# EAGLE library part CON-FFC-60-REV (library added_parts)
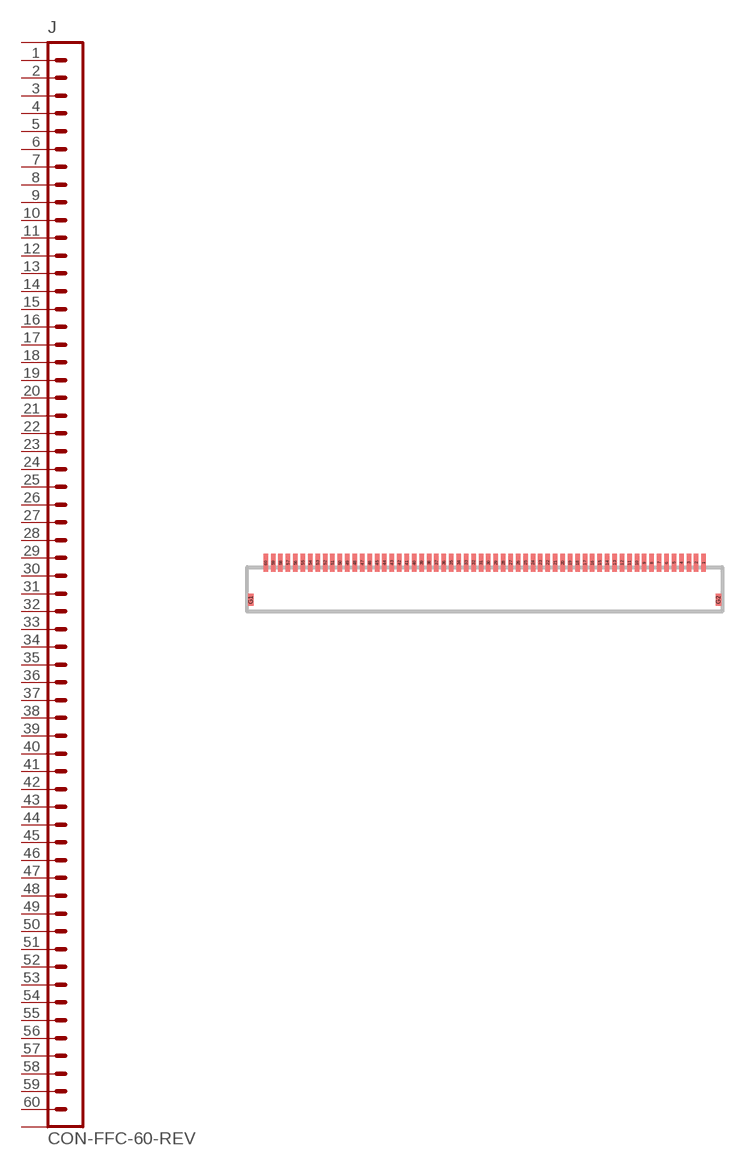
[diagram p5: symbol with the pads of CON-FFC-60-REV; footprint CON-FFC-60-REV]

Designator prefix J

## CON-FFC-60-REV  [CON-FFC-60-REV]
1  1  pas
2  2  pas
3  3  pas
4  4  pas
5  5  pas
6  6  pas
7  7  pas
8  8  pas
9  9  pas
10  10  pas
11  11  pas
12  12  pas
13  13  pas
14  14  pas
15  15  pas
16  16  pas
17  17  pas
18  18  pas
19  19  pas
20  20  pas
21  21  pas
22  22  pas
23  23  pas
24  24  pas
25  25  pas
26  26  pas
27  27  pas
28  28  pas
29  29  pas
30  30  pas
31  31  pas
32  32  pas
33  33  pas
34  34  pas
35  35  pas
36  36  pas
37  37  pas
38  38  pas
39  39  pas
40  40  pas
41  41  pas
42  42  pas
43  43  pas
44  44  pas
45  45  pas
46  46  pas
47  47  pas
48  48  pas
49  49  pas
50  50  pas
51  51  pas
52  52  pas
53  53  pas
54  54  pas
55  55  pas
56  56  pas
57  57  pas
58  58  pas
59  59  pas
60  60  pas
G1  P$3  pas
G2  P$2  pas

## Footprint CON-FFC-60-REV (pad centres in mm)
smd 0.3 x 1.2: 1 14.75,1.8; 2 14.25,1.8; 3 13.75,1.8; 4 13.25,1.8; 5 12.75,1.8; 6 12.25,1.8; 7 11.75,1.8; 8 11.25,1.8; 9 10.75,1.8; 10 10.25,1.8; 11 9.75,1.8; 12 9.25,1.8; 13 8.75,1.8; 14 8.25,1.8; 15 7.75,1.8; 16 7.25,1.8; 17 6.75,1.8; 18 6.25,1.8; 19 5.75,1.8; 20 5.25,1.8; 21 4.75,1.8; 22 4.25,1.8; 23 3.75,1.8; 24 3.25,1.8; 25 2.75,1.8; 26 2.25,1.8; 27 1.75,1.8; 28 1.25,1.8; 29 0.75,1.8; 30 0.25,1.8; 31 -0.25,1.8; 32 -0.75,1.8; 33 -1.25,1.8; 34 -1.75,1.8; 35 -2.25,1.8; 36 -2.75,1.8; 37 -3.25,1.8; 38 -3.75,1.8; 39 -4.25,1.8; 40 -4.75,1.8; 41 -5.25,1.8; 42 -5.75,1.8; 43 -6.25,1.8; 44 -6.75,1.8; 45 -7.25,1.8; 46 -7.75,1.8; 47 -8.25,1.8; 48 -8.75,1.8; 49 -9.25,1.8; 50 -9.75,1.8; 51 -10.25,1.8; 52 -10.75,1.8; 53 -11.25,1.8; 54 -11.75,1.8; 55 -12.25,1.8; 56 -12.75,1.8; 57 -13.25,1.8; 58 -13.75,1.8; 59 -14.25,1.8; 60 -14.75,1.8
smd 0.4 x 0.8: G1 -15.75,-0.7; G2 15.75,-0.7